# EAGLE library part SI4455 (library silicon_labs)
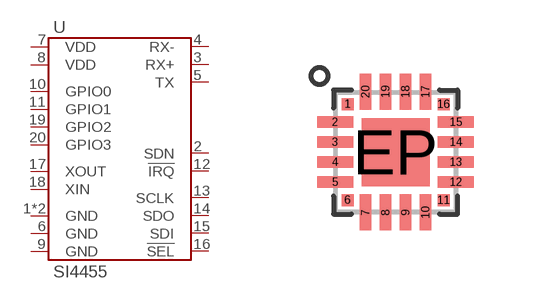
[diagram p0: symbol with the pads of SI4455; footprint SI4455]

Designator prefix U

## SI4455  [SI4455]
1  GND
2  SDN
3  RX+
4  RX-
5  TX
6  GND
7  VDD
8  VDD
9  GND
10  GPIO0
11  GPIO1
12  !IRQ
13  SCLK
14  SDO
15  SDI
16  !SEL
17  XOUT
18  XIN
19  GPIO2
20  GPIO3
EP  GND

## Footprint SI4455 (pad centres in mm)
smd 0.3 x 0.3: 1 -1.2,1.2; 6 -1.2,-1.2; 11 1.2,-1.2; 16 1.2,1.2
smd 0.9 x 0.29: 2 -1.51,0.75; 3 -1.51,0.25; 4 -1.51,-0.25; 5 -1.51,-0.75; 12 1.51,-0.75; 13 1.51,-0.25; 14 1.51,0.25; 15 1.51,0.75
smd 0.29 x 0.9: 7 -0.75,-1.51; 8 -0.25,-1.51; 9 0.25,-1.51; 10 0.75,-1.51; 17 0.75,1.51; 18 0.25,1.51; 19 -0.25,1.51; 20 -0.75,1.51
smd 1.7 x 1.7: EP 0,0